# Altium schematic symbol library 691322110003.SchLib: 1 symbol
Pins are listed as number, name and electrical type; pins without a type are passive.

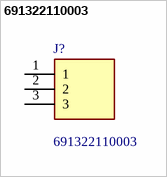
[diagram p0: symbol 691322110003]

## 691322110003
designator J?
Pluggable Terminal Block Wurth Elektronik 3221 Series 3.5mm Pitch, 3 Way Straight, PCB Header, Through Hole; Geometry.Height: 7mm; Manufacturer_Name: Wurth Elektronik; Manufacturer_Part_Number: 691322110003; Mouser Part Number: 710-691322110003; Mouser Price/Stock: https://www.mouser.co.uk/ProductDetail/Wurth-Elektronik/691322110003?qs=E2PpAYvlWVuH5qLC1GE%2FCQ%3D%3D; Arrow Part Number: *; Arrow Price/Stock: *; Datasheet Link: http://katalog.we-online.de/em/datasheet/6913221100xx.pdf
footprint SHDRRA3W80P0X350_1X3_1190X920X700P
pins: 1, 2, 3